# Altium footprint library alientek_sch_lib.PcbLib: 370 footprints (part 15 of 24)
Each footprint in its own frame and in the unit in brackets; x right, y up, seen from the top. Pads: shape width x height; smd on the part's side, far side on the other; paste and mask are expansions set on the pad; w line width, h text height; cw(c..) or ccw(c..) is an arc to the next point about the centre after c.
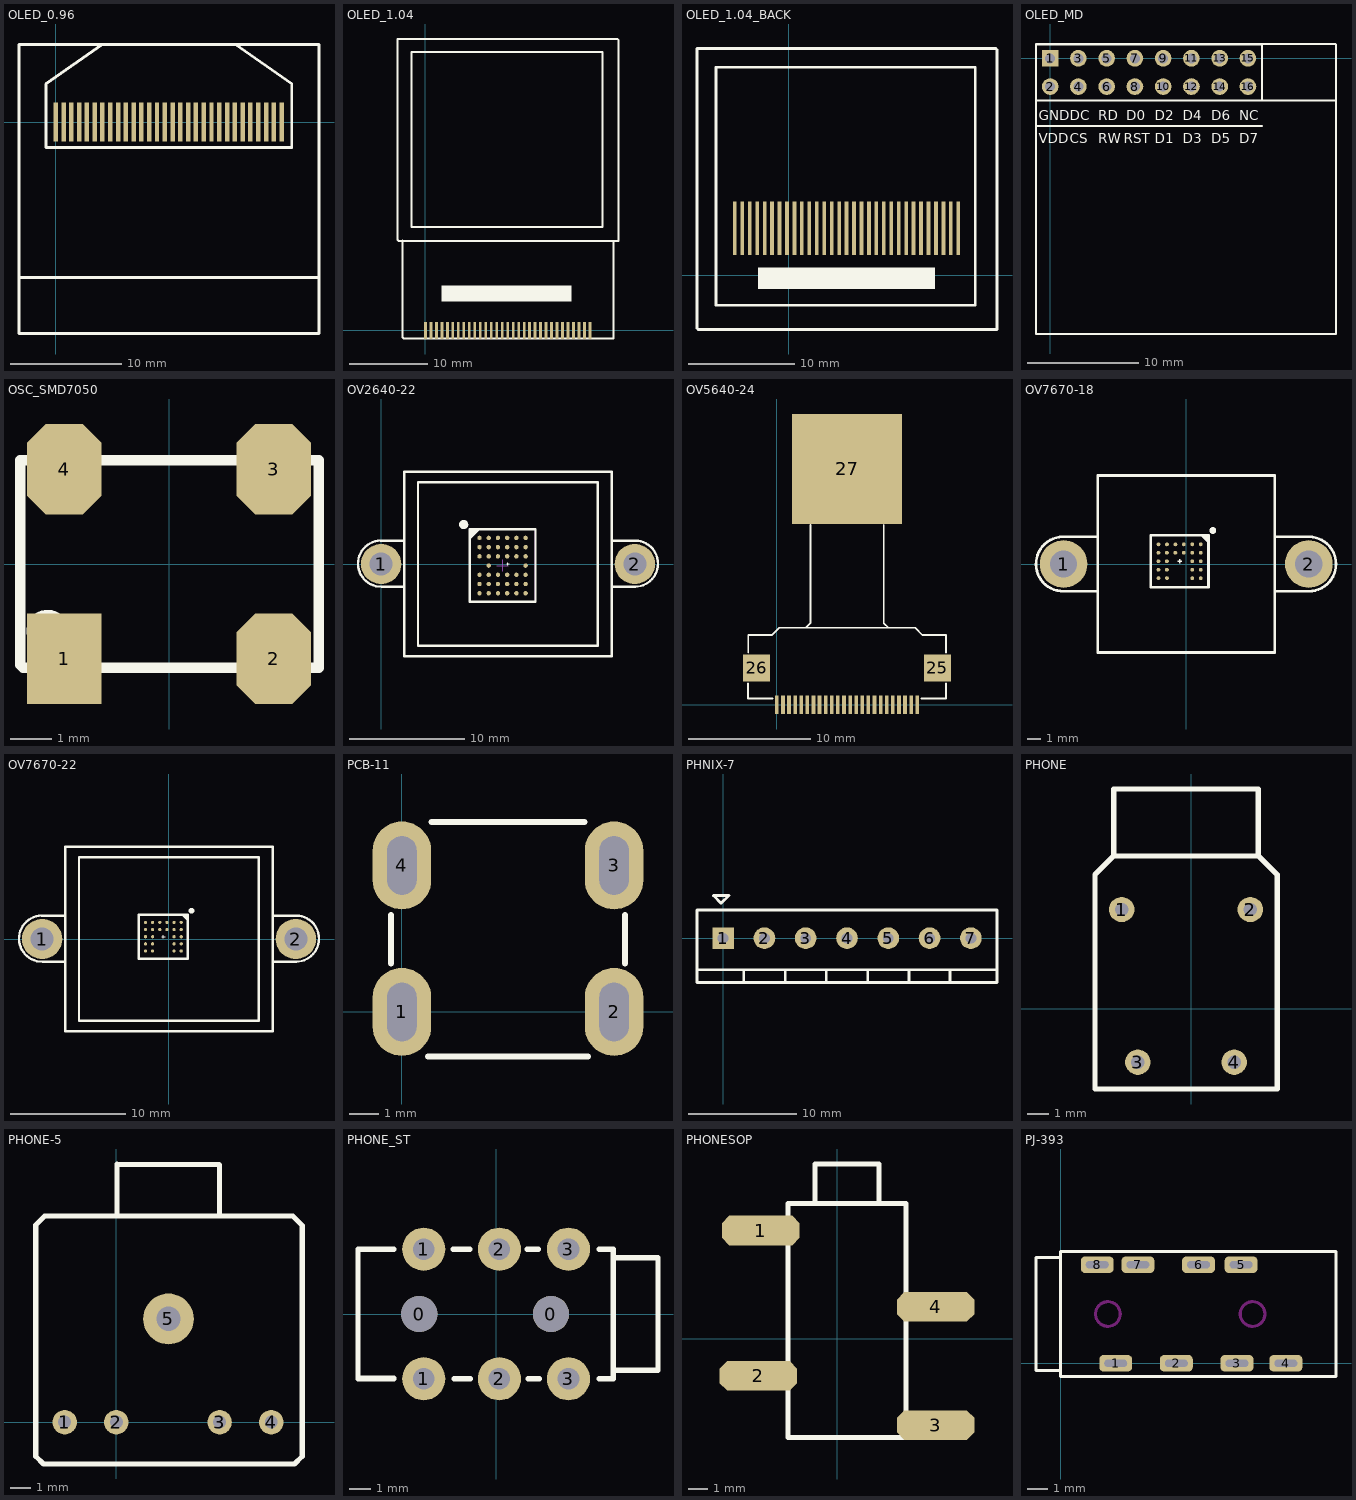
[diagram p14: the footprints below, top view; thin cyan lines are the x and y axes]

## OLED_0.96 [mm] "128*64"
height 0.051
pads (30):
  rect 0.4x3.5 smd: 1(0,0) 2(0.7,0) 3(1.4,0) 4(2.1,0) 5(2.8,0) 6(3.5,0) 7(4.2,0) 8(4.9,0) 9(5.6,0) 10(6.3,0) 11(7,0) 12(7.7,0) 13(8.4,0) 14(9.1,0) 15(9.8,0) 16(10.5,0) 17(11.2,0) 18(11.9,0) 19(12.6,0) 20(13.3,0) 21(14,0) 22(14.7,0) 23(15.4,0) 24(16.1,0) 25(16.8,0) 26(17.5,0) 27(18.2,0) 28(18.9,0) 29(19.6,0) 30(20.3,0)
Top Overlay:
  lines w0.254: -3.302,-13.97 4.572,-13.97 ; 4.191,6.985 -0.889,3.429 -0.889,-2.286 21.209,-2.286 21.209,3.429 16.129,6.985 ; 4.318,-13.97 23.533,-13.97 ; -3.302,-19.015 -3.302,6.985 23.66,6.985 23.66,-19.015 -3.302,-19.015

## OLED_1.04 [mm]
pads (31):
  rect 0.35x2.2 smd: 1(0,0) 2(0.7,0) 3(1.4,0) 4(2.1,0) 5(2.8,0) 6(3.5,0) 7(4.2,0) 8(4.9,0) 9(5.6,0) 10(6.3,0) 11(7,0) 12(7.7,0) 13(8.4,0) 14(9.1,0) 15(9.8,0) 16(10.5,0) 17(11.2,0) 18(11.9,0) 19(12.6,0) 20(13.3,0) 21(14,0) 22(14.7,0) 23(15.4,0) 24(16.1,0) 25(16.8,0) 26(17.5,0) 27(18.2,0) 28(18.9,0) 29(19.6,0) 30(20.3,0) 31(21,0)
Top Overlay:
  rectangle: 2.032,3.683 18.669,5.715
  lines w0.254: -2.921,11.452 -2.921,-0.889 -2.794,-1.016 -2.413,-1.016 23.622,-1.016 ; -2.359,-1.016 -2.159,-1.016 ; 22.987,-1.016 24.003,-1.016 24.003,11.446 ; 24.638,36.449 24.638,37.09 24.517,37.211 -3.556,37.211 -3.556,36.836 -3.556,11.557 -3.429,11.43 24.638,11.43 24.638,36.627 ; -1.778,13.208 -1.778,35.56 22.606,35.56 22.606,35.306 22.606,13.208 -1.778,13.208

## OLED_1.04_BACK [mm]
height 0.051
pads (31):
  rect 0.35x5 smd: 1(-5.08,4.445) 2(-4.38,4.445) 3(-3.68,4.445) 4(-2.98,4.445) 5(-2.28,4.445) 6(-1.58,4.445) 7(-0.88,4.445) 8(-0.18,4.445) 9(0.52,4.445) 10(1.22,4.445) 11(1.92,4.445) 12(2.62,4.445) 13(3.32,4.445) 14(4.02,4.445) 15(4.72,4.445) 16(5.42,4.445) 17(6.12,4.445) 18(6.82,4.445) 19(7.52,4.445) 20(8.22,4.445) 21(8.92,4.445) 22(9.62,4.445) 23(10.32,4.445) 24(11.02,4.445) 25(11.72,4.445) 26(12.42,4.445) 27(13.12,4.445) 28(13.82,4.445) 29(14.52,4.445) 30(15.22,4.445) 31(15.92,4.445)
Top Overlay:
  rectangle: -2.921,-1.27 13.716,0.762
  lines w0.254: 17.526,19.05 17.526,18.796 17.526,19.558 -6.858,19.558 -6.858,-2.794 17.526,-2.794 17.526,19.304 ; 19.558,19.939 19.558,20.58 ; -8.636,-4.953 -8.636,20.326 -8.636,20.701 -8.636,21.336 19.437,21.336 19.558,21.215 19.558,20.117 19.558,-5.08 -8.509,-5.08 -8.636,-4.953

## OLED_MD [mm] "OLED Module;128*64;"
height 10
pads (16):
  rect 1.5x1.5 hole 0.9: 1(0,0)
  round 1.5 hole 0.9: 2(0,-2.54) 3(2.54,0) 4(2.54,-2.54) 5(5.08,0) 6(5.08,-2.54) 7(7.62,0) 8(7.62,-2.54) 9(10.16,0) 10(10.16,-2.54) 11(12.7,0) 12(12.7,-2.54) 13(15.24,0) 14(15.24,-2.54) 15(17.78,0) 16(17.78,-2.54)
Top Overlay:
  lines w0.178: -1.27,-6.096 19.05,-6.096 ; -1.235,-3.775 25.692,-3.775 ; 18.796,1.27 25.654,1.27 ; 19.05,-3.775 19.05,1.27 -1.27,1.27 -1.27,-24.765 25.692,-24.765 25.692,1.235
  lines w0.2: -1.27,1.27 19.05,1.27
  text "GND" at -1.016,-5.588 h0.89
  text "VDD" at -1.016,-7.62 h0.89
  text "DC" at 1.778,-5.588 h0.89
  text "CS" at 1.778,-7.62 h0.89
  text "RD" at 4.318,-5.588 h0.89
  text "RW" at 4.318,-7.62 h0.89
  text "D0" at 6.858,-5.588 h0.89
  text "RST" at 6.604,-7.62 h0.89
  text "D1" at 9.398,-7.62 h0.89
  text "D2" at 9.398,-5.588 h0.89
  text "D3" at 11.938,-7.62 h0.89
  text "D4" at 11.938,-5.588 h0.89
  text "D6" at 14.478,-5.588 h0.89
  text "D5" at 14.478,-7.62 h0.89
  text "D7" at 17.018,-7.62 h0.89
  text "NC" at 17.018,-5.588 h0.89

## OSC_SMD7050 [mm] "XTAL-OSC"
height 1
pads (4):
  rect 1.8x2.2 smd: 1(-2.54,-2.3)
  oct 1.8x2.2 smd: 2(2.54,-2.3) 3(2.54,2.3) 4(-2.54,2.3)
Top Overlay:
  circle w0.254: c-2.946,-1.626 r0.389
  lines w0.254: -3.607,-2.443 -3.535,-2.515 3.632,-2.515 3.632,2.515 -3.607,2.515 -3.607,-2.443

## OV2640-22 [mm] "OV2640带22mm镜头座"
pads (40):
  round 3.5 hole 2: 1(0,0) 2(22,0)
  round 0.38 smd: A1(8.53,2.263) A2(9.33,2.263) A3(10.13,2.263) A4(10.93,2.263) A5(11.73,2.263) A6(12.53,2.263) B1(8.53,1.463) B2(9.33,1.463) B3(10.13,1.463) B4(10.93,1.463) B5(11.73,1.463) B6(12.53,1.463) C1(8.53,0.663) C2(9.33,0.663) C3(10.13,0.663) C4(10.93,0.663) C5(11.73,0.663) C6(12.53,0.663) D2(9.33,-0.137) D6(12.53,-0.137) E1(8.53,-0.937) E2(9.33,-0.937) E3(10.13,-0.937) E4(10.93,-0.937) E5(11.73,-0.937) E6(12.53,-0.937) F1(8.53,-1.737) F2(9.33,-1.737) F3(10.13,-1.737) F4(10.93,-1.737) F5(11.73,-1.737) F6(12.53,-1.737) G1(8.53,-2.537) G2(9.33,-2.537) G3(10.13,-2.537) G4(10.93,-2.537) G5(11.73,-2.537) G6(12.53,-2.537)
Top Overlay:
  circle w0.4: c7.155,3.419 r0.2
  region: 8.496,3.013 7.68,2.197 7.68,3.013
  lines w0.03: 10.9,0.008 11.11,0.008 ; 11,-0.097 11,0.113
  lines w0.2: 7.68,2.197 8.496,3.013 ; 7.68,-3.287 7.68,3.013 13.38,3.013 13.38,-3.287 7.68,-3.287
  lines w0.203: 1.938,-1.967 0.023,-1.967 cw(c-0.011,0.032) -0.049,2.032 2,2.032 ; 3.2,-7.112 3.2,7.1 18.788,7.1 ; 3.212,-7.1 18.788,-7.1 ; 18.8,-7.1 18.8,7.1 ; 20,2.032 22.049,2.032 cw(c22.014,0.032) 22.033,-1.968 20.063,-1.968 ; 20,8 2,8 2,-8 20,-8 20,8.001
Mechanical 13:
  lines w0.1: 7.68,-3.287 7.68,3.013 13.38,3.013 13.38,-3.287 7.68,-3.287
Mechanical 15:
  lines w0.1: 10.03,-0.137 11.03,-0.137 ; 10.53,-0.637 10.53,0.363

## OV5640-24 [mm] "FPCBOTTOM;0.5mm;"
height 1
pads (27):
  rect 0.3x1.5 smd: 1(0,0) 2(0.5,0) 3(1,0) 4(1.5,0) 5(2,0) 6(2.5,0) 7(3,0) 8(3.5,0) 9(4,0) 10(4.5,0) 11(5,0) 12(5.5,0) 13(6,0) 14(6.5,0) 15(7,0) 16(7.5,0) 17(8,0) 18(8.5,0) 19(9,0) 20(9.5,0) 21(10,0) 22(10.5,0) 23(11,0) 24(11.5,0)
  rect 2.2x2.2 smd: 25(13.151,3.023) 26(-1.657,3.023)
  rect 9x9 smd: 27(5.753,19.317)
Top Overlay:
  lines w0.152: -2.356,1.753 -2.356,0.508 -0.336,0.508 ; -2.343,4.293 -2.343,5.708 ; -2.325,5.708 -0.432,5.708 -0.413,5.708 0.187,6.308 ; 0.33,6.308 0.187,6.308 ; 2.159,6.308 2.371,6.308 2.753,6.69 2.753,14.732 ; 8.753,14.732 8.753,13.424 8.753,6.724 8.753,6.699 9.144,6.308 ; 9.186,6.308 9.271,6.308 ; 11.83,0.508 13.85,0.508 13.85,1.753 ; 13.85,4.293 13.85,5.708 ; 13.85,5.715 13.843,5.708 11.93,5.708 11.33,6.308 0.187,6.308

## OV7670-18 [mm] "BGA, 24-Leads, Body 4.2x3.8mm,  Pitch 0.62mm"
height 8
pads (26):
  round 3.5 hole 2: 1(-9,0) 2(9,0)
  round 0.28 smd: A1(1.064,1.442) A2(1.064,0.822) A3(1.064,0.202) A4(1.064,-0.418) A5(1.064,-1.038) B1(0.444,1.442) B2(0.444,0.822) B3(0.444,0.202) B4(0.444,-0.418) B5(0.444,-1.038) C1(-0.176,1.442) C2(-0.176,0.822) D1(-0.796,1.442) D2(-0.796,0.822) E1(-1.416,1.442) E2(-1.416,0.822) E3(-1.416,0.202) E4(-1.416,-0.418) E5(-1.416,-1.038) F1(-2.036,1.442) F2(-2.036,0.822) F3(-2.036,0.202) F4(-2.036,-0.418) F5(-2.036,-1.038)
Top Overlay:
  circle w0.25: c1.953,2.456 r0.125
  region: 1.639,1.63 1.167,2.102 1.639,2.102
  lines w0.102: -0.63,0.202 -0.325,0.202 ; -0.486,0.07 -0.486,0.349
  lines w0.2: 1.167,2.102 1.639,1.63 ; -2.611,-1.698 -2.611,2.102 1.639,2.102 1.639,-1.698 -2.611,-1.698
  lines w0.203: -6.547,2 -9.064,2 ccw(c-9.025,0) -8.992,-2 -6.526,-2 ; -6.5,-0.152 -6.5,6.498 -6.498,6.5 0,6.5 ; -6.5,0 -6.5,-6.5 0,-6.5 6.5,-6.5 6.5,0 6.5,6.5 -0.61,6.5 ; 6.499,2 9.027,2 cw(c8.992,0) 9.011,-2 6.524,-2

## OV7670-22 [mm] "BGA, 24-Leads, Body 4.2x3.8mm,  Pitch 0.62mm"
height 8
pads (26):
  round 3.5 hole 2: 1(-11,0) 2(11,0)
  round 0.28 smd: A1(1.062,1.44) A2(1.062,0.82) A3(1.062,0.2) A4(1.062,-0.42) A5(1.062,-1.04) B1(0.442,1.44) B2(0.442,0.82) B3(0.442,0.2) B4(0.442,-0.42) B5(0.442,-1.04) C1(-0.178,1.44) C2(-0.178,0.82) D1(-0.798,1.44) D2(-0.798,0.82) E1(-1.418,1.44) E2(-1.418,0.82) E3(-1.418,0.2) E4(-1.418,-0.42) E5(-1.418,-1.04) F1(-2.038,1.44) F2(-2.038,0.82) F3(-2.038,0.2) F4(-2.038,-0.42) F5(-2.038,-1.04)
Top Overlay:
  circle w0.25: c1.951,2.454 r0.125
  region: 1.637,1.628 1.165,2.1 1.637,2.1
  lines w0.102: -0.632,0.2 -0.327,0.2 ; -0.488,0.068 -0.488,0.347
  lines w0.2: 1.165,2.1 1.637,1.628 ; -2.613,-1.7 1.637,-1.7 1.637,2.1 -2.613,2.1 -2.613,-1.7
  lines w0.203: -9.062,-1.967 -10.977,-1.967 cw(c-11.011,0.032) -11.049,2.032 -9,2.032 ; -7.8,-7.112 -7.8,7.1 7.788,7.1 ; -7.788,-7.1 7.788,-7.1 ; 7.8,-7.1 7.8,7.1 ; 9,2.032 11.049,2.032 cw(c11.014,0.032) 11.033,-1.968 9.063,-1.968 ; 9,8 -9,8 -9,-8 9,-8 9,8.001

## PCB-11 [mm] "7mm*5mm,2r:1.5mm"
height 8.4
pads (4):
  oval 2x3 hole 1 slot 2 at 90 deg: 1(0,0) 2(7.239,0) 3(7.239,5) 4(0,5)
Top Overlay:
  lines w0.203: -0.381,1.651 -0.381,3.302 ; 0.889,-1.524 6.35,-1.524 ; 1.016,6.477 6.223,6.477 ; 7.62,1.651 7.62,3.302

## PHNIX-7 [mm] "名字不太对"
height 9
pads (7):
  rect 2x2 hole 1: 1(0,0)
  round 2 hole 1: 2(3.81,0) 3(7.62,0) 4(11.43,0) 5(15.24,0) 6(19.05,0) 7(22.86,0)
Top Overlay:
  lines w0.254: -2.413,-2.91 25.203,-2.91 ; 1.9,-4.1 1.9,-3.084 ; 5.72,-4.1 5.72,-2.957 ; 9.51,-4.1 9.51,-3.084 ; 13.35,-4.1 13.35,-3.084 ; 17.16,-4.1 17.16,-2.957 ; 20.94,-4.1 20.94,-2.91 ; -2.413,-4.1 -2.413,2.61 25.273,2.61 25.273,-4.1 -2.413,-4.1 ; -0.894,3.924 -0.867,3.95 0.54,3.95 -0.19,3.22 -0.894,3.924

## PHONE [mm]
height 0.6
pads (4):
  round 1.2 hole 0.635: 1(-3.302,4.699) 2(2.794,4.699) 3(-2.54,-2.54) 4(2.032,-2.54)
Top Overlay:
  lines w0.254: -3.683,7.239 -3.683,10.414 -0.127,10.414 3.175,10.414 3.175,7.239 ; -3.683,7.239 -4.572,6.35 -4.572,-3.81 4.064,-3.81 4.064,6.35 3.175,7.239 ; -3.683,7.239 3.175,7.239

## PHONE-5 [mm] "PHONE_5"
height 5
pads (5):
  round 1.2 hole 0.635: 1(-2.54,0) 2(0,0) 3(5.08,0) 4(7.62,0)
  round 2.5 hole 1.2: 5(2.565,5.08)
Top Overlay:
  lines w0.254: 0.025,10.135 0.025,12.7 0.051,12.675 5.055,12.675 5.08,12.649 5.08,10.135 ; -3.962,-1.676 -3.581,-2.057 8.763,-2.057 9.144,-1.676 9.144,9.677 8.687,10.135 2.565,10.135 -3.531,10.135 -3.962,9.703 -3.962,-1.676

## PHONE_ST [mm] "PHONE_ST"
height 9
pads (8):
  round 1.676 hole 1.676: 0(-3.556,0) 0(2.54,0)
  round 2 hole 1: 1(-3.35,-3) 1(-3.35,3) 2(0.15,-3) 2(0.15,3) 3(3.35,-3) 3(3.35,3)
Top Overlay:
  lines w0.254: -6.393,-2.969 -4.742,-2.969 ; -4.742,-3.007 -6.393,-3.007 -6.393,3 -4.742,3 ; -1.986,3 -1.224,3 ; -1.948,-3.007 -1.186,-3.007 ; 1.443,3 1.951,3 ; 1.481,-3.007 1.989,-3.007 ; 4.783,-3.007 5.33,-3.007 ; 4.783,3 5.418,3 5.418,-3.007 ; 5.418,-2.6 7.493,-2.6 7.493,2.6 5.418,2.6

## PHONESOP [mil]
height 196.85
pads (4):
  oct 157.48x60 smd: 1(-155,220) 2(-160,-75) 3(200,-175) 4(200,65)
Top Overlay:
  lines w10: -45,275 -45,355 85,355 85,275 ; -100,-200 -100,275 140,275 140,-200 -100,-200

## PJ-393 [mm] "PJ-393"
height 9
pads (8):
  rrect50% 1.6x0.8 hole 0.35 slot 1.1 at 0 deg: 1(2.68,0) 2(5.63,0) 3(8.58,0) 4(10.96,0) 5(8.78,4.8) 6(6.71,4.8) 7(3.76,4.8) 8(1.78,4.8)
Top Overlay:
  lines w0.152: 0,-0.35 -1.2,-0.35 -1.2,5.15 0,5.15 ; 0,-0.65 13.4,-0.65 13.4,5.45 0,5.45 0,-0.65
Keep-Out Layer:
  circle w0.152: c9.34,2.4 r0.6
  circle w0.152: c2.3,2.4 r0.6